# Altium footprint library sample_board.PcbLib: 2 footprints
Each footprint in its own frame and in the unit in brackets; x right, y up, seen from the top. Pads: shape width x height; smd on the part's side, far side on the other; paste and mask are expansions set on the pad; w line width, h text height; cw(c..) or ccw(c..) is an arc to the next point about the centre after c.
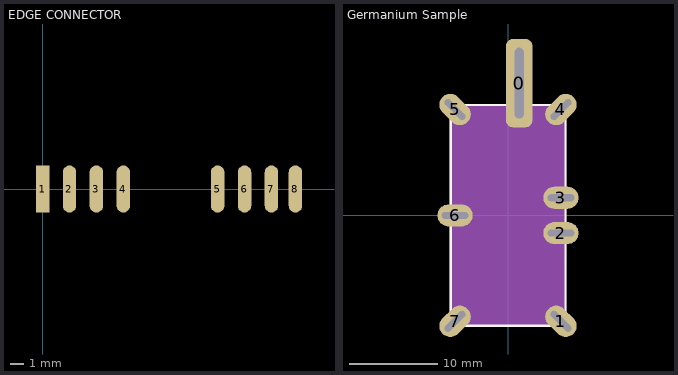
[diagram p0: the footprints below, top view; thin cyan lines are the x and y axes]

## EDGE CONNECTOR [mm]
pads (8):
  rect 1x3.5 smd: 1(0,0)
  oval 1x3.5 smd: 2(2,0) 3(4,0) 4(6,0) 5(13,0) 6(15,0) 7(17,0) 8(18.78,0)

## Germanium Sample [mm] "Germanium sample footprint"
pads (8):
  rrect50% 3x10 hole 1 slot 8 at 90 deg: 0(1.27,14.986)
  oval 2.5x4 hole 0.762 slot 3 at 135 deg rot 45: 1(6,-12) 5(-6,12)
  oval 4x2.5 hole 0.762 slot 3 at 0 deg: 2(6,-2) 3(6,2) 6(-6,0)
  oval 2.5x4 hole 0.762 slot 3 at 45 deg rot 135: 4(6,12) 7(-6,-12)
Top Overlay:
  lines w0.254: -6.496,-12.504 6.504,-12.504 6.504,12.495 -6.496,12.495 -6.496,7.495 -6.496,6.495 -6.496,5.496 -6.496,-12.504
Mechanical 1:
  pour cut-out: -6.5,-12.5 6.5,-12.5 6.5,12.5 -6.5,12.5
  lines w0.254: -6.5,-12.5 6.5,-12.5 6.5,12.5 -6.5,12.5 -6.5,-12.5
3D body: height 0, standoff -1, extent -3.381,-10.127 3.619,9.873